# Altium footprint library 67997-100HLF.PcbLib: 1 footprints
Each footprint in its own frame and in the unit in brackets; x right, y up, seen from the top. Pads: shape width x height; smd on the part's side, far side on the other; paste and mask are expansions set on the pad; w line width, h text height; cw(c..) or ccw(c..) is an arc to the next point about the centre after c.
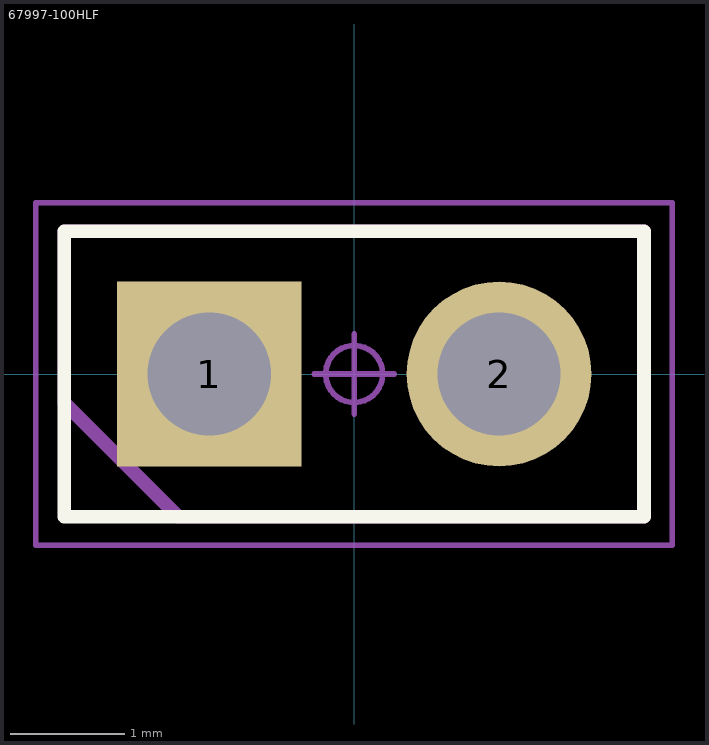
[diagram p0: the footprint, top view; thin cyan lines are the x and y axes]

## 67997-100HLF [mm] "Header, Vertical, 2.54 mm pitch; 0.66 mm lead width, 6 pins, 1 row, 6 pins per row, 15.24 mm L X 2.49 mm W X 8.38 mm H body"
height 8.38
pads (2):
  rect 1.62x1.62 / inner round 1.62 / far side rect 1.62x1.62 hole 1.08 paste-1.62: 1(-1.27,0)
  round 1.62 hole 1.08 paste-1.62: 2(1.27,0)
Top Overlay:
  lines w0.12: -2.54,-1.25 2.54,-1.25 2.54,1.25 -2.54,1.25 -2.54,-1.25
Mechanical 3:
  lines w0.12: -2.54,-0.254 -2.54,1.25 2.54,1.25 2.54,-1.25 -1.544,-1.25 -2.54,-0.254
Mechanical 5:
  lines w0.025: -2.54,-1.245 2.54,-1.245 2.54,1.245 -2.54,1.245 -2.54,-1.245 ; -1.6,-0.33 -0.94,-0.33 -0.94,0.33 -1.6,0.33 -1.6,-0.33 ; 0.94,-0.33 1.6,-0.33 1.6,0.33 0.94,0.33 0.94,-0.33
Mechanical 7:
  circle w0.05: c0,0 r0.25
  lines w0.05: -0.35,0 0.35,0 ; 0,-0.35 0,0.35 ; -2.79,-1.5 2.787,-1.5 2.787,1.5 -2.79,1.5 -2.79,-1.5
Mechanical 9:
  text "'.Designator'" at -5.225,-2.425 h1
3D body "67997-x02.stp": height 8.19, standoff -3.24, extent -2.463,-1.315 2.363,1.225
3D body: height 2.41, standoff -2.41, extent -2.79,-1.5 2.787,1.5